# Altium footprint library myPcbLib.PcbLib: 124 footprints (part 7 of 8)
Each footprint in its own frame and in the unit in brackets; x right, y up, seen from the top. Pads: shape width x height; smd on the part's side, far side on the other; paste and mask are expansions set on the pad; w line width, h text height; cw(c..) or ccw(c..) is an arc to the next point about the centre after c.
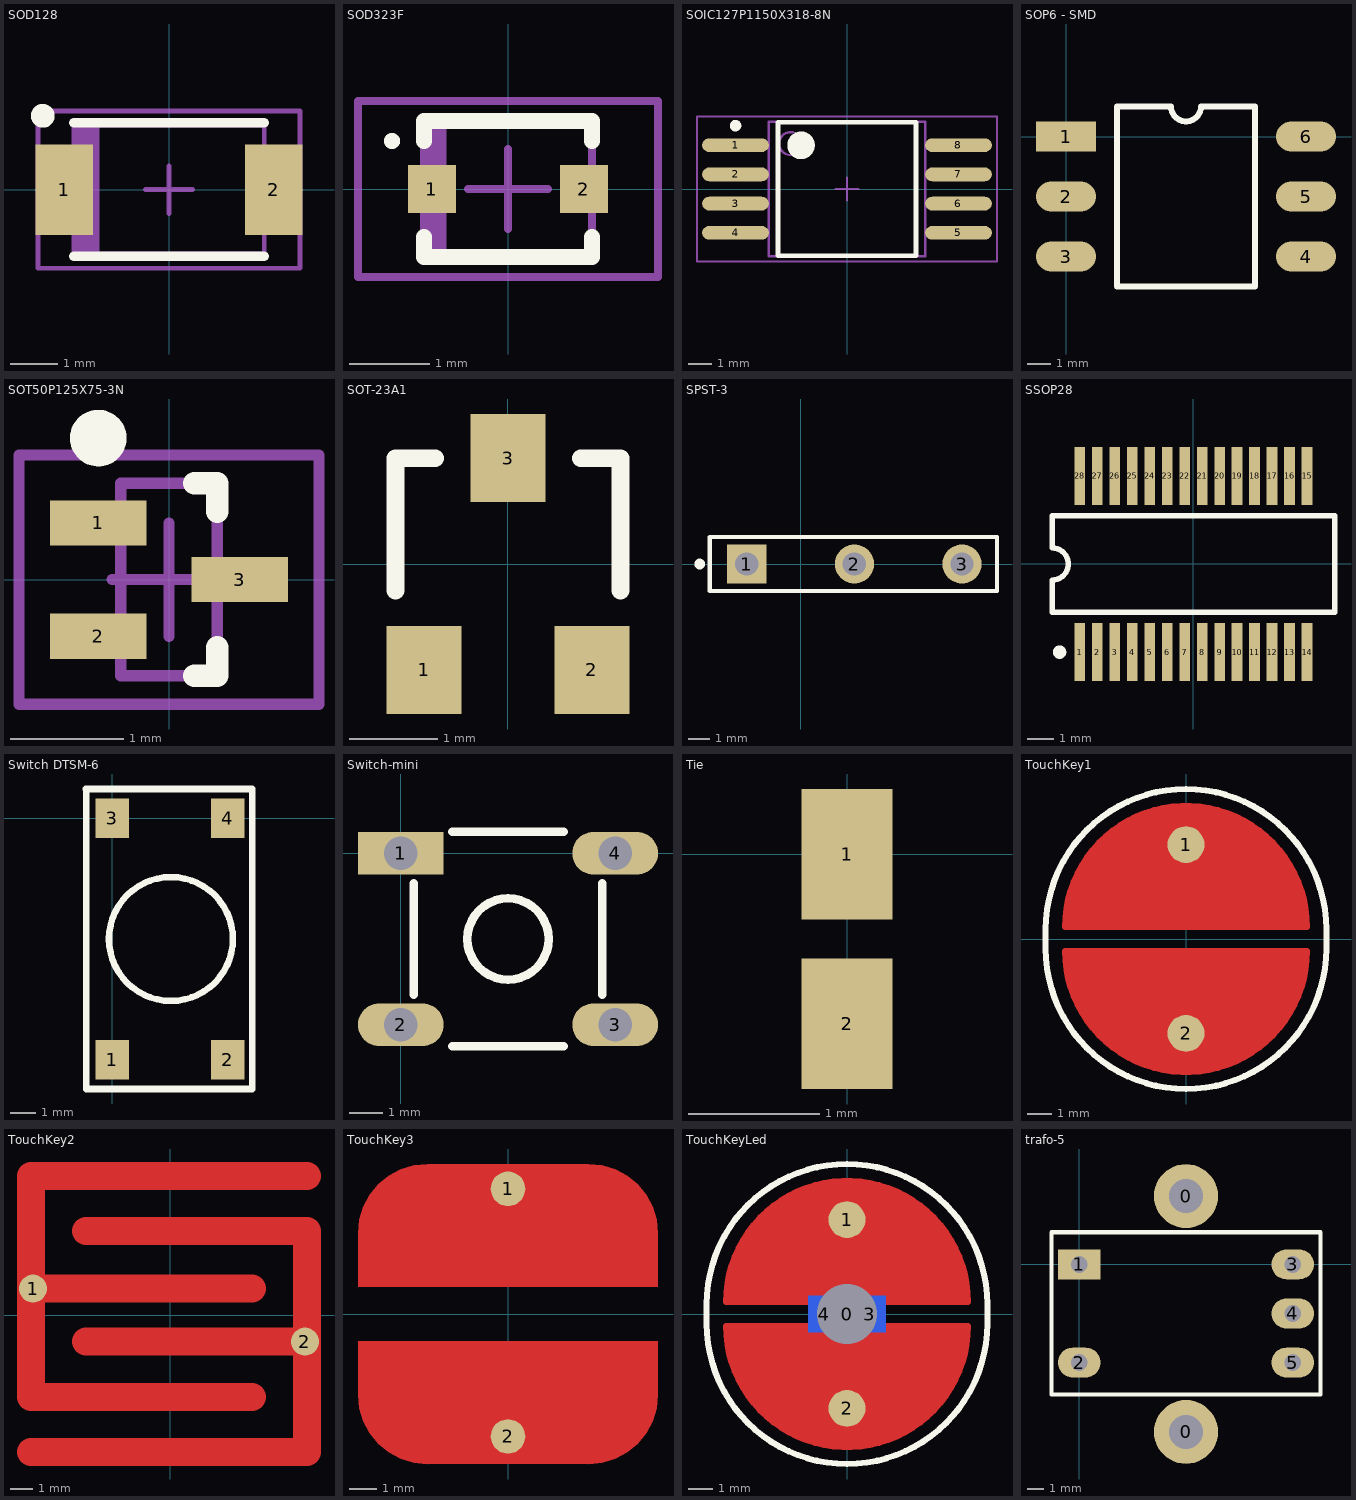
[diagram p6: the footprints below, top view; thin cyan lines are the x and y axes]

## SOD128 [mm]
height 1.1
pads (2):
  rect 1.2x1.9 smd: 1(-2.2,0) 2(2.2,0)
Top Overlay:
  circle w0.25: c-2.65,1.55 r0.125
  lines w0.2: -2,-1.4 2,-1.4 ; -2,1.4 2,1.4
Mechanical 13:
  rectangle: -2,-1.35 -1.462,1.35
  lines w0.1: -2,-1.35 2,-1.35 2,1.35 -2,1.35 -2,-1.35
Mechanical 15:
  lines w0.1: -0.5,0 0.5,0 ; 0,-0.5 0,0.5 ; -2.75,-1.65 2.75,-1.65 2.75,1.65 -2.75,1.65 -2.75,-1.65
3D body: height 1.1, standoff 0, extent -2,-1.35 2,1.35

## SOD323F [mm] "Molded Diode, 2-Leads, Body 2,1x1,6mm, IPC Medium Density"
height 0.8
pads (2):
  rect 0.6x0.6 smd: 1(-0.95,0) 2(0.95,0)
Top Overlay:
  circle w0.1: c-1.45,0.6 r0.05
  lines w0.2: -1.05,-0.6 -1.05,-0.85 1.05,-0.85 1.05,-0.6 ; -1.05,0.6 -1.05,0.85 1.05,0.85 1.05,0.6
Mechanical 13:
  rectangle: -1.05,-0.825 -0.768,0.825
  lines w0.1: -1.05,-0.825 1.05,-0.825 1.05,0.825 -1.05,0.825 -1.05,-0.825
Mechanical 15:
  lines w0.1: -0.5,0 0.5,0 ; 0,-0.5 0,0.5 ; -1.875,-1.1 1.875,-1.1 1.875,1.1 -1.875,1.1 -1.875,-1.1
3D body: height 0.8, standoff 0, extent -1.05,-0.825 1.05,0.825

## SOIC127P1150X318-8N [mm] "SOIC, 8-Leads, Body 5,8x6,8mm (max), Pitch 1,27mm, IPC Medium Density"
height 3.18
pads (8):
  oval 2.9x0.6 smd: 1(-4.85,1.905) 2(-4.85,0.635) 3(-4.85,-0.635) 4(-4.85,-1.905) 5(4.85,-1.905) 6(4.85,-0.635) 7(4.85,0.635) 8(4.85,1.905)
Top Overlay:
  circle w0.25: c-4.85,2.755 r0.125
  circle w0.6: c-2,1.9 r0.3
  lines w0.2: -3,-2.9 -3,2.9 3,2.9 3,-2.9 -3,-2.9
Mechanical 13:
  circle w0.1: c-2.45,1.975 r0.5
  lines w0.1: -3.4,-2.925 -3.4,2.925 3.4,2.925 3.4,-2.925 -3.4,-2.925
Mechanical 15:
  lines w0.1: -0.5,0 0.5,0 ; 0,-0.5 0,0.5 ; -6.525,-3.15 -6.525,3.15 6.525,3.15 6.525,-3.15 -6.525,-3.15
3D body: height 3.18, standoff 0.2, extent -3.4,-2.925 3.4,2.925

## SOP6 - SMD [mm]
pads (6):
  rect 2.54x1.27 smd: 1(0,0)
  oval 2.54x1.27 smd: 2(0,-2.54) 3(0,-5.08) 4(10.16,-5.08) 5(10.16,-2.54) 6(10.16,0)
Top Overlay:
  lines w0.254: 2.159,-6.35 8.001,-6.35 8.001,1.27 5.715,1.27 cw(c5.08,1.27) 4.445,1.27 2.159,1.27 2.159,-6.35

## SOT50P125X75-3N [mm] "SOT23, 3-Leads, Body 1,7x1,4mm (max), Pitch 0,50mm, IPC Medium Density"
height 0.75
pads (3):
  rect 0.85x0.4 smd: 1(-0.625,0.5) 2(-0.625,-0.5) 3(0.625,0)
Top Overlay:
  circle w0.25: c-0.625,1.25 r0.125
  lines w0.2: 0.225,-0.85 0.425,-0.85 0.425,-0.6 ; 0.225,0.85 0.425,0.85 0.425,0.6
Mechanical 13:
  lines w0.1: -0.425,-0.85 0.425,-0.85 0.425,0.85 -0.425,0.85 -0.425,-0.85
Mechanical 15:
  lines w0.1: -0.5,0 0.5,0 ; 0,-0.5 0,0.5 ; -1.325,-1.1 1.325,-1.1 1.325,1.1 -1.325,1.1 -1.325,-1.1
3D body: height 0.75, standoff 0.05, extent -0.425,-0.85 0.425,0.85

## SOT-23A1 [mm] "SOT-23; 3 Leads; Body 3.1 x 2.5 mm, inc. leads (LxW max)"
height 1.09
pads (3):
  rect 0.85x1 smd: 1(-0.95,-1.2) 2(0.95,-1.2) 3(0,1.2)
Top Overlay:
  lines w0.2: -1.275,-0.3 -1.275,1.2 -0.825,1.2 ; 0.825,1.2 1.275,1.2 1.275,-0.3

## SPST-3 [mm] "Switch; 3 Leads"
pads (3):
  rect 1.85x1.85 hole 1.1: 1(-2.54,0)
  round 1.85 hole 1.1: 2(2.54,0) 3(7.62,0)
Top Overlay:
  circle w0.25: c-4.761,-0.001 r0.125
  lines w0.2: -4.28,-1.27 -4.28,1.27 9.271,1.27 9.271,-1.27 -4.28,-1.27

## SSOP28 [mm] "SSOP, Plastic; 28 Leads; Body Width 5.3 mm; Pitch 0.65 mm"
height 2
pads (28):
  rect 0.4x2.15 smd: 1(-4.225,-3.275) 2(-3.575,-3.275) 3(-2.925,-3.275) 4(-2.275,-3.275) 5(-1.625,-3.275) 6(-0.975,-3.275) 7(-0.325,-3.275) 8(0.325,-3.275) 9(0.975,-3.275) 10(1.625,-3.275) 11(2.275,-3.275) 12(2.925,-3.275) 13(3.575,-3.275) 14(4.225,-3.275) 15(4.225,3.275) 16(3.575,3.275) 17(2.925,3.275) 18(2.275,3.275) 19(1.625,3.275) 20(0.975,3.275) 21(0.325,3.275) 22(-0.325,3.275) 23(-0.975,3.275) 24(-1.625,3.275) 25(-2.275,3.275) 26(-2.925,3.275) 27(-3.575,3.275) 28(-4.225,3.275)
Top Overlay:
  circle w0.25: c-4.975,-3.275 r0.125
  lines w0.2: -5.25,-1.8 5.25,-1.8 5.25,1.8 -5.25,1.8 -5.25,0.6 cw(c-5.25,0) -5.25,-0.6 -5.25,-1.8

## Switch DTSM-6 [mm]
pads (4):
  rect 1.3x1.55 smd: 1(0,-9.398) 2(4.5,-9.398) 3(0,0) 4(4.5,0)
Top Overlay:
  circle w0.254: c2.286,-4.699 r2.413
  lines w0.254: -1.041,1.143 5.461,1.143 5.461,-10.541 -1.016,-10.541 -1.016,1.143

## Switch-mini [mm]
pads (4):
  rect 2.54x1.27 hole 1: 1(0,0)
  oval 2.54x1.27 hole 1: 2(0,-5.08) 3(6.35,-5.08) 4(6.35,0)
Top Overlay:
  circle w0.254: c3.175,-2.54 r1.205
  lines w0.254: 0.381,-4.191 0.381,-0.889 ; 1.524,-5.715 4.826,-5.715 ; 1.524,0.635 4.826,0.635 ; 5.969,-4.191 5.969,-0.889

## Tie [mm]
pads (2):
  rect 0.7x1 smd: 1(0,0) 2(0,-1.295)

## TouchKey1 [mil] "TouchKey1"
pads (2):
  round 60 smd: 1(0,153.54) 2(0,-153.54)
Top Layer:
  region: 196.85,-19.68 -196.85,-19.68 -192.91,-62.99 -173.23,-114.17 -133.86,-165.35 -70.87,-204.72 0,-216.54 62.99,-204.72 122.05,-173.23 169.29,-118.11 192.91,-59.06
  region: -196.85,19.68 196.85,19.68 192.91,62.99 173.23,114.17 133.86,165.35 70.87,204.72 0,216.54 -62.99,204.72 -122.05,173.23 -169.29,118.11 -192.91,59.06
  lines w10: -196.85,-19.68 ccw(c0,-19.68) 196.85,-19.69 -196.85,-19.68 ; -196.85,19.69 cw(c0,19.68) 196.85,19.68 -196.85,19.68
Top Overlay:
  lines w10: -228.35,-15.75 ccw(c0,-15.75) 228.35,-15.75 228.35,15.75 ccw(c0,15.75) -228.35,15.75 -228.35,-15.75

## TouchKey2 [mm] "TouchKey2"
pads (2):
  round 1.27 smd: 1(-6.2,1.2) 2(6.1,-1.2)
Top Layer:
  lines w1.27: -6.3,-6.2 6.2,-6.2 6.2,3.8 -3.8,3.8 ; -6.3,1.2 3.7,1.2 ; -3.8,-1.2 6.1,-1.2 ; 3.7,-3.7 -6.3,-3.7 -6.3,6.3 6.2,6.3

## TouchKey3 [mm] "TouchKey3"
pads (2):
  round 1.27 smd: 1(0,4.6) 2(0,-4.5)
Top Layer:
  region: -5.5,1 -5.512,2.96 -5.463,3.458 -5.318,3.937 -5.082,4.378 -4.765,4.765 -4.378,5.082 -3.937,5.318 -3.458,5.463 -2.96,5.512 -2.96,5.5 2.96,5.512 3.458,5.463 3.937,5.318 4.378,5.082 4.765,4.765 5.082,4.378 5.318,3.937 5.463,3.458 5.512,2.96 5.5,2.96 5.5,1
  region: 5.5,-1 5.512,-2.96 5.463,-3.458 5.318,-3.937 5.082,-4.378 4.765,-4.765 4.378,-5.082 3.937,-5.318 3.458,-5.463 2.96,-5.512 2.96,-5.5 -2.96,-5.512 -3.458,-5.463 -3.937,-5.318 -4.378,-5.082 -4.765,-4.765 -5.082,-4.378 -5.318,-3.937 -5.463,-3.458 -5.512,-2.96 -5.5,-2.96 -5.5,-1

## TouchKeyLed [mm] "TouchKey with LED"
pads (5):
  round 1.524 hole 2.5 unplated: 0(0,0)
  round 1.524 smd: 1(0,3.9) 2(0,-3.9)
  rect 1.3x1.5 smd far side: 3(0.95,0) 4(-0.95,0)
Top Layer:
  region: 5,-0.5 -5,-0.5 -4.9,-1.6 -4.4,-2.9 -3.4,-4.2 -1.8,-5.2 0,-5.5 1.6,-5.2 3.1,-4.4 4.3,-3 4.9,-1.5
  region: -5,0.5 5,0.5 4.9,1.6 4.4,2.9 3.4,4.2 1.8,5.2 0,5.5 -1.6,5.2 -3.1,4.4 -4.3,3 -4.9,1.5
  lines w0.254: -5,-0.5 ccw(c0,-0.5) 5,-0.5 -5,-0.5 ; -5,0.5 cw(c0,0.5) 5,0.5 -5,0.5
Top Overlay:
  lines w0.254: -5.8,-0.4 ccw(c0,-0.4) 5.8,-0.4 5.8,0.4 ccw(c0,0.4) -5.8,0.4 -5.8,-0.4
Bottom Overlay:
  lines w0.2: -1.9,-0.65 -1.9,0.65

## trafo-5 [mil]
pads (7):
  round 150 hole 78.74: 0(250,-392.5) 0(250,160)
  rect 100x70 hole 39.37: 1(0,0)
  oval 100x70 hole 39.37: 2(0,-230) 3(500,0) 4(500,-115) 5(500,-230)
Top Overlay:
  lines w10: -65,-305 565,-305 565,75 -65,75 -65,-305